# Altium footprint library lib_murata.PcbLib: 1 footprints
Each footprint in its own frame and in the unit in brackets; x right, y up, seen from the top. Pads: shape width x height; smd on the part's side, far side on the other; paste and mask are expansions set on the pad; w line width, h text height; cw(c..) or ccw(c..) is an arc to the next point about the centre after c.
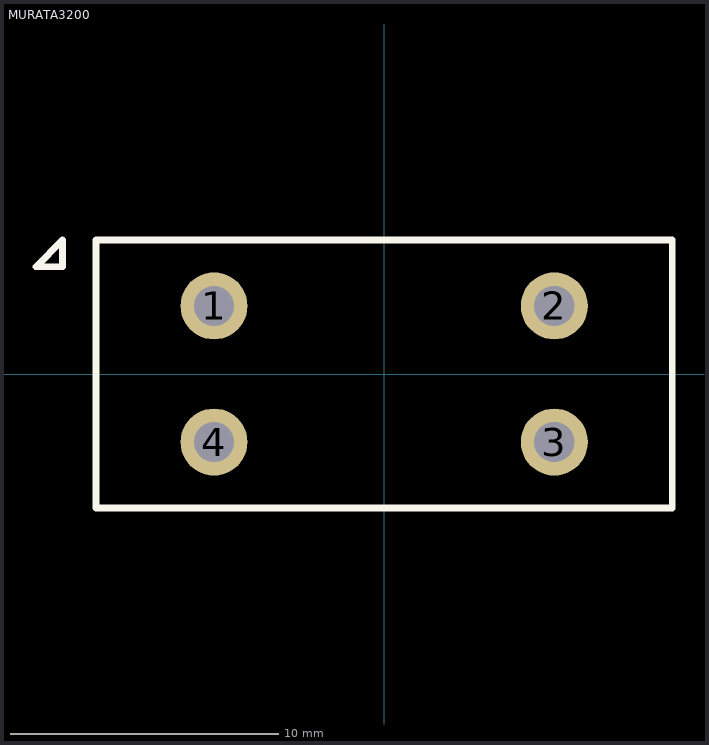
[diagram p0: the footprint, top view; thin cyan lines are the x and y axes]

## MURATA3200 [mm]
pads (4):
  round 2.5 hole 1.5: 1(-6.35,2.54) 2(6.35,2.54) 3(6.35,-2.54) 4(-6.35,-2.54)
Top Overlay:
  lines w0.254: -13,4 -12,5 -12,4 -13,4 ; -10.75,-5 10.75,-5 10.75,5 -10.75,5 -10.75,-5
3D body "MURATA_3200.step": height 24, standoff -3.75, extent -10.75,-5 10.75,5